# EAGLE library part LT_LTC6363 (library Gyro-Test_2)
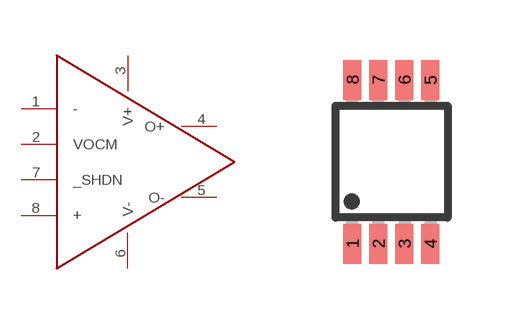
[diagram p2: symbol with the pads of LT_MSOP8; footprint LT_MSOP8]

Designator prefix U

## LT_LTC6363  [LT_MSOP8]
1  -
2  VOCM
3  V+
4  O+
5  O-
6  V-
7  _SHDN
8  +

## Footprint LT_MSOP8 (pad centres in mm)
Micro Small Outline Package Grid .65mm
smd 0.45 x 1: 1 -0.975,-2.05; 2 -0.325,-2.05; 3 0.325,-2.05; 4 0.975,-2.05; 5 0.975,2.05; 6 0.325,2.05; 7 -0.325,2.05; 8 -0.975,2.05